# EAGLE library part 74VHC132M (library Fairchild_By_element14_Batch_1)
Quad 2-Input NAND Schmitt Trigger
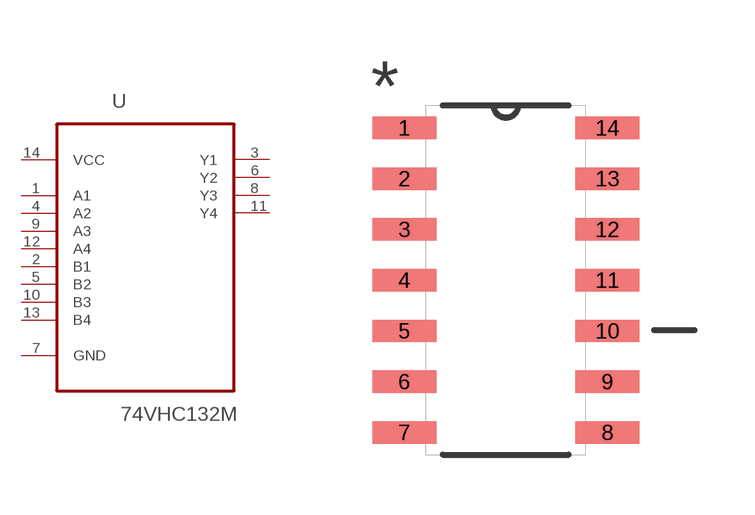
[diagram p126: symbol with the pads of SOIC127P600X175-14N; footprint SOIC127P600X175-14N]

Designator prefix U

## 74VHC132M (MPN: 74VHC132M; OC_FARNELL: 1014114; OC_NEWARK: 99K0663; PACKAGE: SOIC-14; SUPPLIER: Fairchild)  [SOIC127P600X175-14N]
1  A1  in
2  B1  in
3  Y1  out
4  A2  in
5  B2  in
6  Y2  out
7  GND  pas
8  Y3  out
9  A3  in
10  B3  in
11  Y4  out
12  A4  in
13  B4  in
14  VCC  pwr

## Footprint SOIC127P600X175-14N (pad centres in mm)
smd 1.6 x 0.559: 1 -2.54,3.81; 2 -2.54,2.54; 3 -2.54,1.27; 4 -2.54,0; 5 -2.54,-1.27; 6 -2.54,-2.54; 7 -2.54,-3.81; 8 2.54,-3.81; 9 2.54,-2.54; 10 2.54,-1.27; 11 2.54,0; 12 2.54,1.27; 13 2.54,2.54; 14 2.54,3.81